# EAGLE library part SH5-6 (library con-rib)
RIBBON CABLE CONNECTOR Flachstecker / Faston
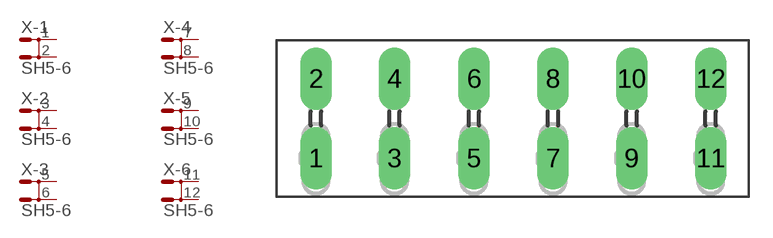
[diagram p4: symbol with the pads of SH5-6; footprint SH5-6]

Designator prefix X; gates -1=MD -2=MD -3=MD -4=MD -5=MD -6=MD

## SH5-6  [SH5-6]
1  -1:1  pas
2  -1:2  pas
3  -2:1  pas
4  -2:2  pas
5  -3:1  pas
6  -3:2  pas
7  -4:1  pas
8  -4:2  pas
9  -5:1  pas
10  -5:2  pas
11  -6:1  pas
12  -6:2  pas

## Footprint SH5-6 (pad centres in mm)
RIBBON CABLE CONNECTOR Flachstecker / Faston
drill 1.321 long: 1 -12.497,-2.515; 2 -12.497,2.515; 3 -7.518,-2.515; 4 -7.518,2.515; 5 -2.489,-2.515; 6 -2.489,2.515; 7 2.515,-2.515; 8 2.515,2.515; 9 7.493,-2.515; 10 7.493,2.515; 11 12.497,-2.515; 12 12.497,2.515